# Altium schematic symbol library PicoBlade_53261-0471.SchLib: 1 symbol
Pins are listed as number, name and electrical type; pins without a type are passive.

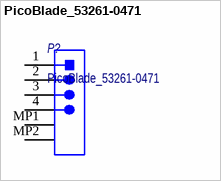
[diagram p0: symbol PicoBlade_53261-0471]

## PicoBlade_53261-0471
designator P?
Male Header, Pitch 1.25 mm, 1 x 4 Position, Height 3.4 mm, -40 to 85 degC, RoHS, Tape and Reel; Потребление, Вт: 0.0; Наименование: PicoBlade_53261-0471; Назначение: Male Header, Pitch 1.25 mm, 1 x 4 Position, Height 3.4 mm, -40 to 85 degC, RoHS, Tape and Reel; ComponentLink1Description: DataSheet; ComponentLink1URL: http://www.molex.com/pdm_docs/sd/532610471_sd.pdf
footprint 53261-0471
footprint 53398-0471
pins: 1, 2, 3, 4, MP1, MP2